# Altium schematic symbol library Transistors-NPN.Schlib: 1 symbol
Pins are listed as number, name and electrical type; pins without a type are passive.

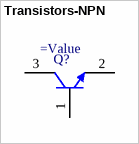
[diagram p0: symbol Transistors-NPN]

## Transistors-NPN
designator Q?
=Description
pins: 1 B, 2 E, 3 C